# EAGLE library part 79109-32 (library con-molex-milli-grid)
RECEPTACAL
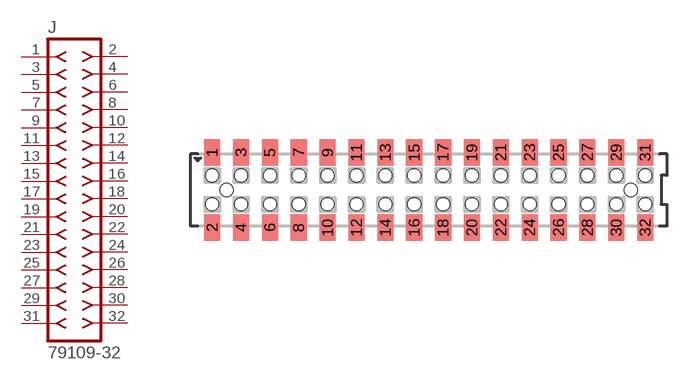
[diagram p173: symbol with the pads of 79109-32; footprint 79109-32]

Designator prefix J

## 79109-32  [79109-32]
1  1  pas
2  2  pas
3  3  pas
4  4  pas
5  5  pas
6  6  pas
7  7  pas
8  8  pas
9  9  pas
10  10  pas
11  11  pas
12  12  pas
13  13  pas
14  14  pas
15  15  pas
16  16  pas
17  17  pas
18  18  pas
19  19  pas
20  20  pas
21  21  pas
22  22  pas
23  23  pas
24  24  pas
25  25  pas
26  26  pas
27  27  pas
28  28  pas
29  29  pas
30  30  pas
31  31  pas
32  32  pas

## Footprint 79109-32 (pad centres in mm)
RECEPTACAL SMD Dual Row, Vertical, Pass-Thru
smd 1.12 x 1.83: 1 -15,2.6; 2 -15,-2.6; 3 -13,2.6; 4 -13,-2.6; 5 -11,2.6; 6 -11,-2.6; 7 -9,2.6; 8 -9,-2.6; 9 -7,2.6; 10 -7,-2.6; 11 -5,2.6; 12 -5,-2.6; 13 -3,2.6; 14 -3,-2.6; 15 -1,2.6; 16 -1,-2.6; 17 1,2.6; 18 1,-2.6; 19 3,2.6; 20 3,-2.6; 21 5,2.6; 22 5,-2.6; 23 7,2.6; 24 7,-2.6; 25 9,2.6; 26 9,-2.6; 27 11,2.6; 28 11,-2.6; 29 13,2.6; 30 13,-2.6; 31 15,2.6; 32 15,-2.6
hole 0.914 at -14,0
hole 0.914 at -15,1
hole 0.914 at -15,-1
hole 0.914 at -13,-1
hole 0.914 at -13,1
hole 0.914 at -11,-1
hole 0.914 at -11,1
hole 0.914 at 14,0
hole 0.914 at -9,1
hole 0.914 at -9,-1
hole 0.914 at -7,1
hole 0.914 at -7,-1
hole 0.914 at -5,1
hole 0.914 at -5,-1
hole 0.914 at -3,1
hole 0.914 at -3,-1
hole 0.914 at -1,-1
hole 0.914 at -1,1
hole 0.914 at 1,1
hole 0.914 at 1,-1
hole 0.914 at 3,1
hole 0.914 at 3,-1
hole 0.914 at 5,1
hole 0.914 at 5,-1
hole 0.914 at 7,-1
hole 0.914 at 7,1
hole 0.914 at 9,1
hole 0.914 at 11,1
hole 0.914 at 13,1
hole 0.914 at 9,-1
hole 0.914 at 11,-1
hole 0.914 at 13,-1
hole 0.914 at 15,-1
hole 0.914 at 15,1